# EAGLE library part HDSP-3600 (library LED displeje)
LED displej 7,62 mm
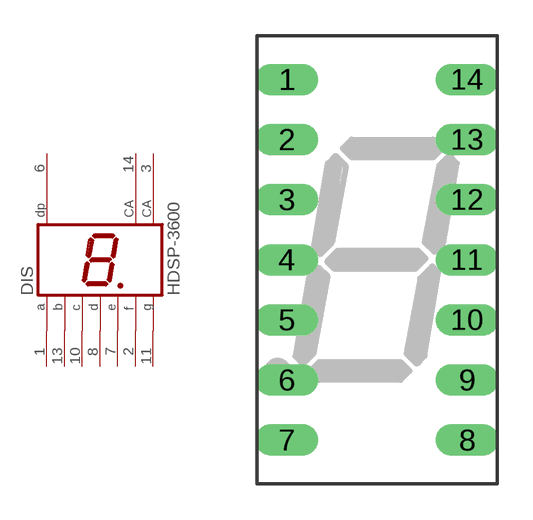
[diagram p35: symbol with the pads of HDSP-C; footprint HDSP-C]

Designator prefix DIS

## HDSP-3600  [HDSP-C]
1  A  pas
2  F  pas
3  CA  pas
6  DP  pas
7  E  pas
8  D  pas
10  C  pas
11  G  pas
13  B  pas
14  CA  pas

## Footprint HDSP-C (pad centres in mm)
drill 0.813 long: 1 -3.81,7.62; 2 -3.81,5.08; 3 -3.81,2.54; 4 -3.81,0; 5 -3.81,-2.54; 6 -3.81,-5.08; 7 -3.81,-7.62; 8 3.81,-7.62; 9 3.81,-5.08; 10 3.81,-2.54; 11 3.81,0; 12 3.81,2.54; 13 3.81,5.08; 14 3.81,7.62